# Altium schematic symbol library F407ZGT6.SchLib: 83 symbols
Pins are listed as number, name and electrical type; pins without a type are passive.

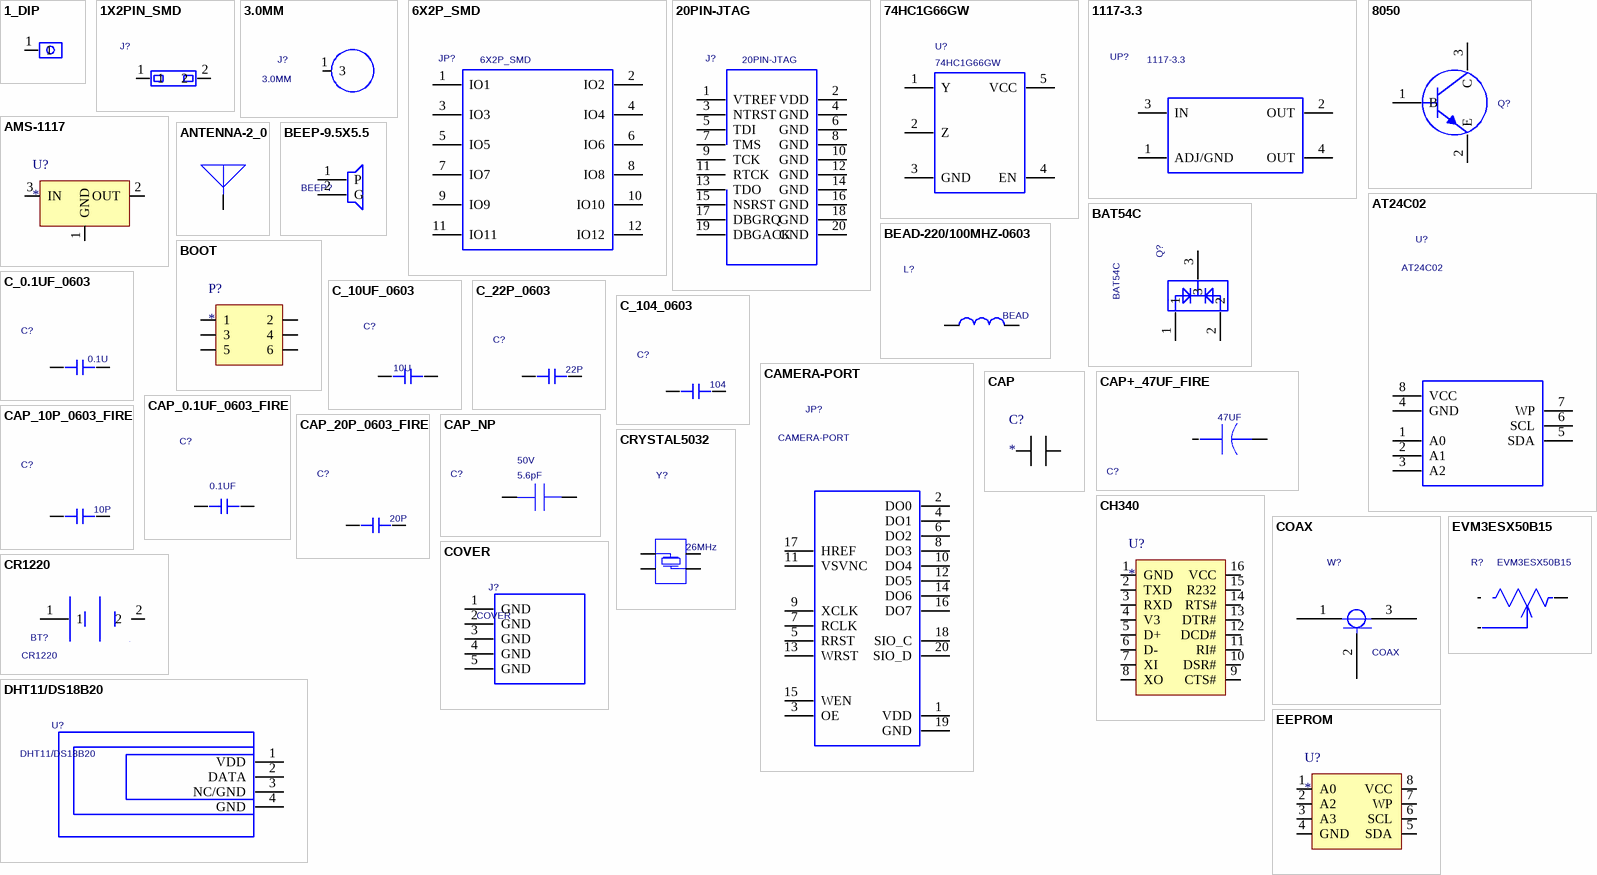
[diagram p0: symbols 1_DIP to EVM3ESX50B15]

## 1_DIP
designator J?  (value not drawn)
PCB DECAL: 1_DIP
footprint 1_DIP
pins: 1

## 1X2PIN_SMD
designator J?  (value not drawn)
PCB DECAL: 1X2PIN_SMD
footprint 1X2PIN_SMD
pins: 1, 2

## 3.0MM
designator J?
PCB DECAL: 3.0MM-5
footprint 3.0MM-5
pins: 1 3

## 6X2P_SMD
designator JP?
I2C_6X2P; PCB DECAL: 12PIN_2.54_SMD; Manufacturer #1 PN: I2C_6X2P; Value: I2C_6X2P
footprint 12PIN_2.54_SMD
pins: 1 IO1, 2 IO2, 3 IO3, 4 IO4, 5 IO5, 6 IO6, 7 IO7, 8 IO8, 9 IO9, 10 IO10, 11 IO11, 12 IO12

## 20PIN-JTAG
designator J?
20pin JTAG; PCB DECAL: FC20H; Manufacturer #1: 20pin JTAG; Manufacturer #1 PN: 20pin JTAG; Value: 20pin JTAG
footprint FC20H
pins: 1 VTREF, 2 VDD, 3 NTRST, 4 GND, 5 TDI, 6 GND, 7 TMS, 8 GND, 9 TCK, 10 GND, 11 RTCK, 12 GND, 13 TDO, 14 GND, 15 NSRST, 16 GND, 17 DBGRQ, 18 GND, 19 DBGACK, 20 GND

## 74HC1G66GW
designator U?
PCB DECAL: SOT-353
footprint SOT-353
pins: 1 Y, 2 Z, 3 GND, 4 EN, 5 VCC

## 1117-3.3
designator UP?
SOT-223; Manufacturer #1: SPX; Geometry.Height: 62.99mil; Manufacturer #1 PN: 1117-3.3
pins: 1 ADJ/GND, 2 OUT, 3 IN, 4 OUT

## 8050
designator Q?  (value not drawn)
NPN; PCB DECAL: SOT-23; Manufacturer #2: 8050
footprint SOT-23
pins: 1 B, 2 E, 3 C

## AMS-1117
designator U?
footprint AMS-1117-3.3
pins: 1 GND, 2 OUT, 3 IN

## ANTENNA-2_0
designator U?  (value not drawn)
PCB DECAL: WIFI_ANTENNA; Source_Path: D:\FIRE_LAYOUT\ESP8266.DSN; Value: ANTENNA-2
footprint WIFI_ANTENNA
pins: 1

## AT24C02
designator U?
8 lead ssop,2k/2048bits; Manufacturer #1: ATMEL; Manufacturer #1 PN: AT24C02; Value: 2k/2048bits
pins: 1 A0, 2 A1, 3 A2, 4 GND, 5 SDA, 6 SCL, 7 WP, 8 VCC

## BAT54C
designator Q?
PCB DECAL: SOT-23; Value: BAT54C
footprint SOT-23
pins: 1, 2, 3

## BEAD-220/100MHZ-0603
designator L?  value BEAD  (hidden comment: BEAD-220/100MHZ-0603)
0603,BEAD; PCB DECAL: L0603; Manufacturer #1 PN: BEAD
footprint L0603
pins: 1, 2

## BEEP-9.5X5.5
designator BEEP?  (value not drawn)
PCB DECAL: BEEP-9.5X5.5
footprint BEEP-9.5X5.5
pins: 1 P, 2 G

## BOOT
designator P?
footprint BOOT
pins: 1, 2, 3, 4, 5, 6

## C_0.1UF_0603
designator C?  value 0.1U  (hidden comment: C_0.1UF_0603)
PCB DECAL: C_0603
footprint C_0603
pins: 1, 2

## C_10UF_0603
designator C?  value 10U  (hidden comment: C_10UF_0603)
PCB DECAL: CAP_0603_FIRE
footprint CAP_0603_FIRE
pins: 1, 2

## C_22P_0603
designator C?  value 22P  (hidden comment: C_22P_0603)
PCB DECAL: C_0603
footprint C_0603
pins: 1, 2

## C_104_0603
designator C?  value 104  (hidden comment: C_104_0603)
PCB DECAL: C_0603
footprint C_0603
pins: 1, 2

## CAMERA-PORT
designator JP?
PCB DECAL: 20PIN_2.54_DIP_BOT; Manufacture 1 P/N: CAMERA-PORT
footprint 20PIN_2.54_DIP_BOT
pins: 1 VDD, 2 DO0, 3 OE, 4 DO1, 5 RRST, 6 DO2, 7 RCLK, 8 DO3, 9 XCLK, 10 DO4, 11 VSVNC, 12 DO5, 13 WRST, 14 DO6, 15 WEN, 16 DO7, 17 HREF, 18 SIO_C, 19 GND, 20 SIO_D

## CAP
designator C?
footprint CAP_0603_FIRE
pins: 1, 2

## CAP+_47UF_FIRE
designator C?  value 47UF  (hidden comment: CAP+_47UF_FIRE)
PCB DECAL: CAP+_47UF_FIRE
footprint CAP+_47UF_FIRE
pins: 1, 2

## CAP_0.1UF_0603_FIRE
designator C?  value 0.1UF  (hidden comment: CAP_0.1UF_0603_FIRE)
SURFACE MOUNT CAPACITOR 0.031 X 0.061 INCHES; PCB DECAL: CAP_0603_FIRE
footprint CAP_0603_FIRE
pins: 1, 2

## CAP_10P_0603_FIRE
designator C?  value 10P  (hidden comment: CAP_10P_0603_FIRE)
0603; Manufacture 1: SUPERCAP; Tolerance: +-5%; PCB DECAL: RES_0603_FIRE
footprint RES_0603_FIRE
pins: 1, 2

## CAP_20P_0603_FIRE
designator C?  value 20P  (hidden comment: CAP_20P_0603_FIRE)
PCB DECAL: CAP_0603_FIRE
footprint CAP_0603_FIRE
pins: 1, 2

## CAP_NP
designator C?  value 5.6pF  Voltage: 50V  (hidden comment: CAP_NP)
0603, X7R, 50V, 10%(K); Partname: 贴片电容  0603; Mfr: Fenghua; Mfr_Part_Number: 0603B104K500NT; Part_Number: CA100039-01; PCB DECAL: 0603; Spec: 100nF/50V 10%(K) X7R,0603B104K500NT(风华); Remarks: Checked; Gtech_Number: 50306031003K50V01; Source_Path: D:\CADENCELIB\CAPTURELIB\LC_PASSIVE.OLB; Datasheet: D:\CadenceLib\Partbase\Datasheet\Capacitor\Fenghua\LC503_Fenghua-X7R.pdf; Tolerance: ±10%; Availability: 30
footprint 0603
pins: 1, 2

## CH340
designator U?
footprint SOP16
pins: 1 GND, 2 TXD, 3 RXD, 4 V3, 5 D+, 6 D-, 7 XI, 8 XO, 9 CTS#, 10 DSR#, 11 RI#, 12 DCD#, 13 DTR#, 14 RTS#, 15 R232, 16 VCC

## COAX
designator W?
PCB DECAL: UFL-3; Source_Path: C:\CADENCE\SPB_16.6\TOOLS\CAPTURE\LIBRARY\CONNECTOR.OLB; Value: COAX
footprint UFL-3
pins: 1 CENTER_1, 2 SHIELD, 3 CENTER_2

## COVER
designator J?
PCB DECAL: COVER1
footprint COVER1
pins: 1 GND, 2 GND, 3 GND, 4 GND, 5 GND

## CR1220
designator BT?
PCB DECAL: BATERY
footprint BATERY
pins: 1, 2

## CRYSTAL5032
designator Y?  value 26MHz  (hidden comment: CRYSTAL5032)
27.12MHz,SMD5032,-30 to 85℃; Part_Number: OS200008-01; Mfr_Part_Number: E5SB27_1200F20G13; Mfr: Hosonic; Partname: 贴片晶振; PCB DECAL: NX3225SA; Spec: 27.12MHz,E5SB27_1200F20G13(Hosonic); Source_Path: D:\CADENCELIB\CAPTURELIB\LC_DISCRETE.OLB; Availability: 0
footprint NX3225SA
pins: 1, 2, 3, 4

## DHT11/DS18B20
designator U?
Manufacture 1 P/N: DHT11/DS1302; PCB DECAL: HDR1X4
footprint HDR1X4
pins: 1 VDD, 2 DATA, 3 NC/GND, 4 GND

## EEPROM
designator U?
footprint SOP8
footprint SOP8
pins: 1 A0, 2 A2, 3 A3, 4 GND, 5 SDA, 6 SCL, 7 WP, 8 VCC

## EVM3ESX50B15
designator R?
c; Value: EVM3ESX50B15-100K; PCB DECAL: EVM3ESX50B14
footprint EVM3ESX50B14
pins: A, B, C

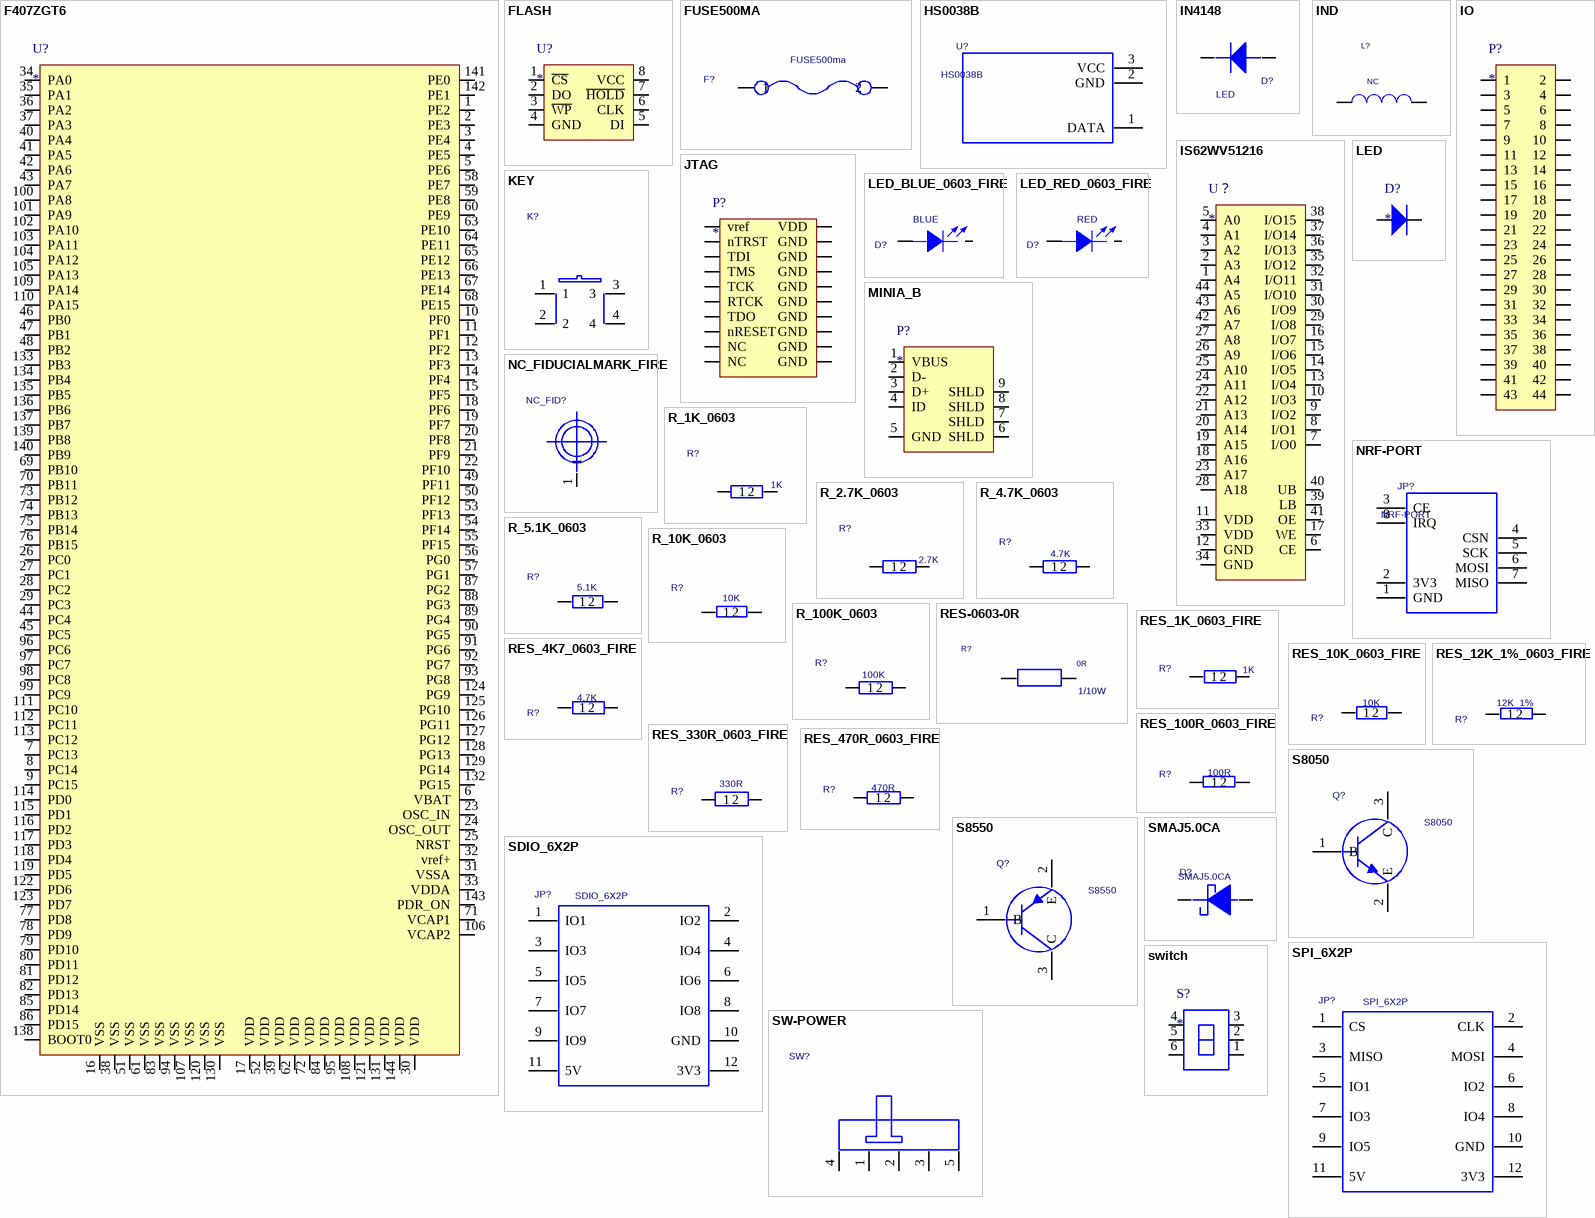
[diagram p1: symbols F407ZGT6 to switch]

## F407ZGT6
designator U?
footprint STM32F407ZGT6
footprint STM32F407ZGT6
pins: 1 PE2, 2 PE3, 3 PE4, 4 PE5, 5 PE6, 6 VBAT, 7 PC13, 8 PC14, 9 PC15, 10 PF0, 11 PF1, 12 PF2, 13 PF3, 14 PF4, 15 PF5, 16 VSS, 17 VDD, 18 PF6, 19 PF7, 20 PF8, 21 PF9, 22 PF10, 23 OSC_IN, 24 OSC_OUT, 25 NRST, 26 PC0, 27 PC1, 28 PC2, 29 PC3, 30 VDD, 31 VSSA, 32 vref+, 33 VDDA, 34 PA0, 35 PA1, 36 PA2, 37 PA3, 38 VSS, 39 VDD, 40 PA4, 41 PA5, 42 PA6, 43 PA7, 44 PC4, 45 PC5, 46 PB0, 47 PB1, 48 PB2, 49 PF11, 50 PF12, 51 VSS, 52 VDD, 53 PF13, 54 PF14, 55 PF15, 56 PG0, 57 PG1, 58 PE7, 59 PE8, 60 PE9, 61 VSS, 62 VDD, 63 PE10, 64 PE11, 65 PE12, 66 PE13, 67 PE14, 68 PE15, 69 PB10, 70 PB11, 71 VCAP1, 72 VDD, 73 PB12, 74 PB13, 75 PB14, 76 PB15, 77 PD8, 78 PD9, 79 PD10, 80 PD11, 81 PD12, 82 PD13, 83 VSS, 84 VDD, 85 PD14, 86 PD15, 87 PG2, 88 PG3, 89 PG4, 90 PG5, 91 PG6, 92 PG7, 93 PG8, 94 VSS, 95 VDD, 96 PC6, 97 PC7, 98 PC8, 99 PC9, 100 PA8, 101 PA9, 102 PA10, 103 PA11, 104 PA12, 105 PA13, 106 VCAP2, 107 VSS, 108 VDD, 109 PA14, 110 PA15, 111 PC10, 112 PC11, 113 PC12, 114 PD0, 115 PD1, 116 PD2, 117 PD3, 118 PD4, 119 PD5, 120 VSS, 121 VDD, 122 PD6, 123 PD7, 124 PG9, 125 PG10, 126 PG11, 127 PG12, 128 PG13, 129 PG14, 130 VSS, 131 VDD, 132 PG15, 133 PB3, 134 PB4, 135 PB5, 136 PB6, 137 PB7, 138 BOOT0, 139 PB8, 140 PB9, 141 PE0, 142 PE1, 143 PDR_ON, 144 VDD

## FLASH
designator U?
footprint SOP8A
pins: 1 ~{CS}, 2 DO, 3 ~{WP}, 4 GND, 5 DI, 6 CLK, 7 ~{HOLD}, 8 VCC

## FUSE500MA
designator F?
Assembly: SMD; PCB DECAL: C1812; Protel.FootprintDescription: Chip Capacitor, 2-Leads, Body 4.6x3.2mm, IP; Manufacture 1 P/N: FUSE500ma; Value: FUSE500ma
footprint C1812
pins: 1, 2

## HS0038B
designator U?
PCB DECAL: HDR1X3; Geometry.Height: 1.19990mm; Protel.FootprintDescription: Connector; Header; 3 Position; Manufacture 1 P/N: HS0038B
footprint HDR1X3
pins: 1 DATA, 2 GND, 3 VCC

## IN4148
designator D?  value LED  (hidden comment: IN4148)
PCB DECAL: DIODE_SOP
footprint DIODE_SOP
pins: 1 +, 2 -

## IND
designator L?  value NC  (hidden comment: IND)
1uH, 1.1R@245MHz, 245mA; Partname: 贴片电感; Mfr: TDK; Mfr_Part_Number: NLV25T-1R0J-PF; Part_Number: IN100085-01; PCB DECAL: 0603; Spec: 1uH,NLV25T-1R0J-PF(TDK); Tolerance: 5%; Resistance: 1.1R; Source_Path: D:\CADENCELIB\CAPTURELIB\LC_PASSIVE.OLB; Current: 245mA; Availability: 0
footprint 0603
pins: 1, 2

## IO
designator P?
footprint HEAD2*22
pins: 1, 2, 3, 4, 5, 6, 7, 8, 9, 10, 11, 12, 13, 14, 15, 16, 17, 18, 19, 20, 21, 22, 23, 24, 25, 26, 27, 28, 29, 30, 31, 32, 33, 34, 35, 36, 37, 38, 39, 40, 41, 42, 43, 44

## IS62WV51216
designator U？
footprint IS62WV51216
footprint IS62WV51216
pins: 1 A4, 2 A3, 3 A2, 4 A1, 5 A0, 6 CE, 7 I/O0, 8 I/O1, 9 I/O2, 10 I/O3, 11 VDD, 12 GND, 13 I/O4, 14 I/O5, 15 I/O6, 16 I/O7, 17 WE, 18 A16, 19 A15, 20 A14, 21 A13, 22 A12, 23 A17, 24 A11, 25 A10, 26 A9, 27 A8, 28 A18, 29 I/O8, 30 I/O9, 31 I/O10, 32 I/O11, 33 VDD, 34 GND, 35 I/O12, 36 I/O13, 37 I/O14, 38 I/O15, 39 LB, 40 UB, 41 OE, 42 A7, 43 A6, 44 A5

## JTAG
designator P?
footprint FC20H
footprint FC20H
pins: 1 vref, 2 VDD, 3 nTRST, 4 GND, 5 TDI, 6 GND, 7 TMS, 8 GND, 9 TCK, 10 GND, 11 RTCK, 12 GND, 13 TDO, 14 GND, 15 nRESET, 16 GND, 17 NC, 18 GND, 19 NC, 20 GND

## KEY
designator K?  (value not drawn)
PCB DECAL: SW6.2/6.2-SMD; Manufacturer #1 PN: KEY
footprint SW6.2/6.2-SMD
pins: 1, 2, 3, 4

## LED
designator D?
footprint DIODE_SOP
pins: 1, 2

## LED_BLUE_0603_FIRE
designator D?  value BLUE  (hidden comment: LED_BLUE_0603_FIRE)
blue,0603; PCB DECAL: LED_BLUE_0603_FIRE
footprint LED_BLUE_0603_FIRE
pins: A ANODE, K CATHODE

## LED_RED_0603_FIRE
designator D?  value RED  (hidden comment: LED_RED_0603_FIRE)
red,0805; PCB DECAL: LED_RED_0603_FIRE
footprint LED_RED_0603_FIRE
pins: A ANODE, K CATHODE

## MINIA_B
designator P?
footprint USB-MINI
pins: 1 VBUS, 2 D-, 3 D+, 4 ID, 5 GND, 6 SHLD, 7 SHLD, 8 SHLD, 9 SHLD

## NC_FIDUCIALMARK_FIRE
designator NC_FID?  (value not drawn)
FIDUCIAL MARK; Serial Number: NF; Priority: 1; PCB DECAL: NC_FIDUCIALMARK_FIRE
footprint NC_FIDUCIALMARK_FIRE
pins: 1

## NRF-PORT
designator JP?
PCB DECAL: 8PIN_2.54_SMD; Manufacture 1 P/N: NRF-PORT
footprint 8PIN_2.54_SMD
pins: 1 GND, 2 3V3, 3 CE, 4 CSN, 5 SCK, 6 MOSI, 7 MISO, 8 IRQ

## R_1K_0603
designator R?  value 1K  (hidden comment: R_1K_0603)
PCB DECAL: R_0603
footprint R_0603
pins: 1, 2

## R_2.7K_0603
designator R?  value 2.7K  (hidden comment: R_2.7K_0603)
PCB DECAL: R_0603
footprint R_0603
pins: 1, 2

## R_4.7K_0603
designator R?  value 4.7K  (hidden comment: R_4.7K_0603)
PCB DECAL: R_0603
footprint R_0603
pins: 1, 2

## R_5.1K_0603
designator R?  value 5.1K  (hidden comment: R_5.1K_0603)
PCB DECAL: R_0603
footprint R_0603
pins: 1, 2

## R_10K_0603
designator R?  value 10K  (hidden comment: R_10K_0603)
PCB DECAL: R_0603
footprint R_0603
pins: 1, 2

## R_100K_0603
designator R?  value 100K  (hidden comment: R_100K_0603)
PCB DECAL: R_0603
footprint R_0603
pins: 1, 2

## RES-0603-0R
designator R?  value 0R  Power: 1/10W  (hidden comment: RES-0603-0R)
0603, 50V, 1/10W, 5%; Partname: 贴片电阻 0603; Part_Number: RE200045-01; Mfr_Part_Number: RS03K104JT; Mfr: Fenghua; PCB DECAL: 0603; Spec: 0R,1/10W,5%,RS03K104JT(风华); Remarks: Checked; Gtech_Number: 50106031003JR1001; Source_Path: D:\CADENCELIB\CAPTURELIB\LC_PASSIVE.OLB; Availability: 0
footprint 0603
pins: 1, 2

## RES_1K_0603_FIRE
designator R?  value 1K  (hidden comment: RES_1K_0603_FIRE)
0402; Manufacture 1: SUPEROHM; Tolerance: +-5%; PCB DECAL: RES_0603_FIRE; Assembly: SMD
footprint RES_0603_FIRE
pins: 1, 2

## RES_4K7_0603_FIRE
designator R?  value 4.7K  (hidden comment: RES_4K7_0603_FIRE)
0402; Manufacture 1: SUPEROHM; Tolerance: +-5%; PCB DECAL: RES_0603_FIRE
footprint RES_0603_FIRE
pins: 1, 2

## RES_10K_0603_FIRE
designator R?  value 10K  (hidden comment: RES_10K_0603_FIRE)
SURFACE MOUNT RESISTOR 0.031 X 0.061 INCHES, 1/10W; PCB DECAL: RES_0603_FIRE; Assembly: SMD
footprint RES_0603_FIRE
pins: 1, 2

## RES_12K_1%_0603_FIRE
designator R?  value 12K_1%  (hidden comment: RES_12K_1%_0603_FIRE)
0402; Manufacture 1: SUPEROHM; Tolerance: +-1%; PCB DECAL: RES_0603_FIRE; Assembly: SMD
footprint RES_0603_FIRE
pins: 1, 2

## RES_100R_0603_FIRE
designator R?  value 100R  (hidden comment: RES_100R_0603_FIRE)
0402; Manufacture 1: SUPEROHM; Tolerance: +-5%; PCB DECAL: RES_0603_FIRE; Assembly: SMD
footprint RES_0603_FIRE
pins: 1, 2

## RES_330R_0603_FIRE
designator R?  value 330R  (hidden comment: RES_330R_0603_FIRE)
0402; Manufacture 1: SUPEROHM; Tolerance: +-5%; PCB DECAL: RES_0603_FIRE; Assembly: SMD
footprint RES_0603_FIRE
pins: 1, 2

## RES_470R_0603_FIRE
designator R?  value 470R  (hidden comment: RES_470R_0603_FIRE)
0402; Manufacture 1: SUPEROHM; Tolerance: +-5%; PCB DECAL: RES_0603_FIRE; Assembly: SMD
footprint RES_0603_FIRE
pins: 1, 2

## S8050
designator Q?
NPN; PCB DECAL: SOT-23; Manufacturer #2: 8050
footprint SOT-23
pins: 1 B, 2 E, 3 C

## S8550
designator Q?
NPN; PCB DECAL: SOT-23; Manufacturer #2: 8050
footprint SOT-23
pins: 1 B, 2 E, 3 C

## SDIO_6X2P
designator JP?
I2C_6X2P; PCB DECAL: 12PIN_2.54_SMD; Manufacturer #1 PN: I2C_6X2P; Value: I2C_6X2P
footprint 12PIN_2.54_SMD
pins: 1 IO1, 2 IO2, 3 IO3, 4 IO4, 5 IO5, 6 IO6, 7 IO7, 8 IO8, 9 IO9, 10 GND, 11 5V, 12 3V3

## SMAJ5.0CA
designator D?
PCB DECAL: DO-214; Value: SMAJ5.0CA
footprint DO-214
pins: 1 +, 2 -

## SPI_6X2P
designator JP?
PCB DECAL: 12PIN_2.54_SMD; Manufacturer #1 PN: SPI_6X2P; Value: SPI_6X2P
footprint 12PIN_2.54_SMD
pins: 1 CS, 2 CLK, 3 MISO, 4 MOSI, 5 IO1, 6 IO2, 7 IO3, 8 IO4, 9 IO5, 10 GND, 11 5V, 12 3V3

## SW-POWER
designator SW?  (value not drawn)
SW-5; PCB DECAL: SW13_6; Manufacturer #1 PN: SW-5
footprint SW13_6
pins: 1, 2, 3, 4, 5

## switch
designator S?
footprint switch
pins: 1, 2, 3, 4, 5, 6

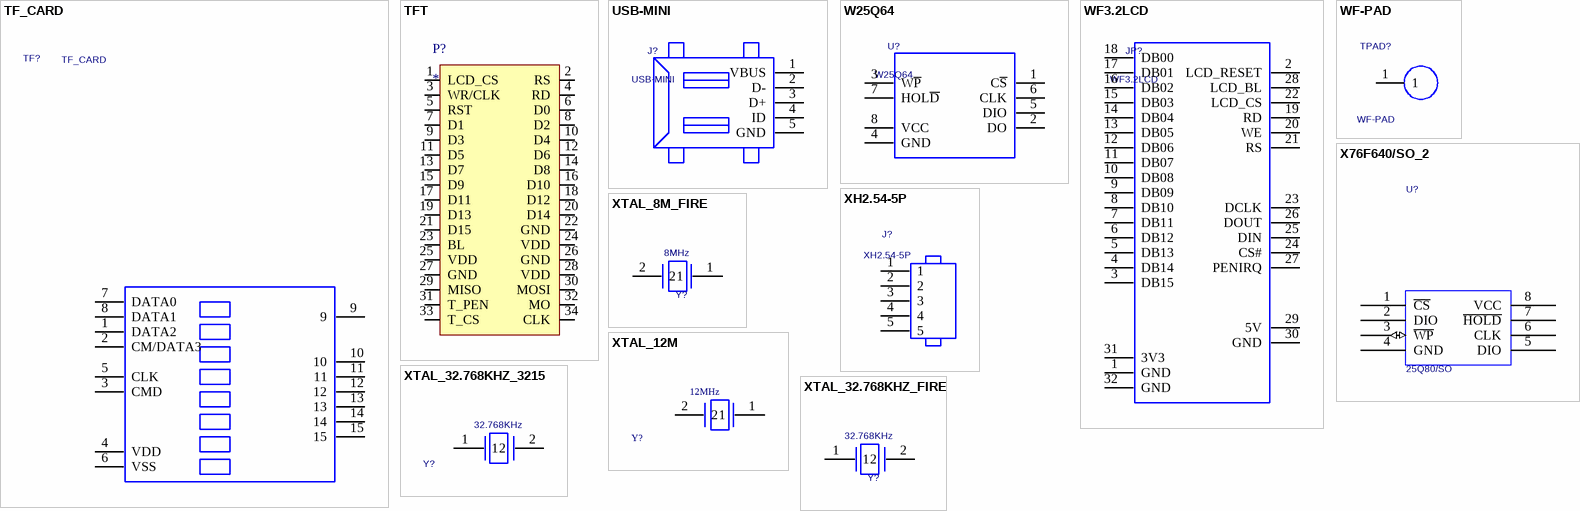
[diagram p2: symbols TF_CARD to XTAL_32.768KHZ_FIRE]

## TF_CARD
designator TF?
Manufacturer #1 PN: MicroSD座/手机; PCB DECAL: TF_CARD
footprint TF_CARD
pins: 1 DATA2, 2 CM/DATA3, 3 CMD, 4 VDD, 5 CLK, 6 VSS, 7 DATA0, 8 DATA1, 9, 10, 11, 12, 13, 14, 15

## TFT
designator P?
footprint TFT
pins: 1 LCD_CS, 2 RS, 3 WR/CLK, 4 RD, 5 RST, 6 D0, 7 D1, 8 D2, 9 D3, 10 D4, 11 D5, 12 D6, 13 D7, 14 D8, 15 D9, 16 D10, 17 D11, 18 D12, 19 D13, 20 D14, 21 D15, 22 GND, 23 BL, 24 VDD, 25 VDD, 26 GND, 27 GND, 28 VDD, 29 MISO, 30 MOSI, 31 T_PEN, 32 MO, 33 T_CS, 34 CLK

## USB-MINI
designator J?
PCB DECAL: USB-MINI
footprint USB-MINI
pins: 1 VBUS, 2 D-, 3 D+, 4 ID, 5 GND

## W25Q64
designator U?
PCB DECAL: SO8WB
footprint SO8WB
pins: 1 C~{S}, 2 DO, 3 W~{P}, 4 GND, 5 DIO, 6 CLK, 7 HOL~{D}, 8 VCC

## WF3.2LCD
designator JP?
PCB DECAL: 2X16X2.54MM
footprint 2X16X2.54MM
pins: 1 GND, 2 LCD_RESET, 3 DB15, 4 DB14, 5 DB13, 6 DB12, 7 DB11, 8 DB10, 9 DB09, 10 DB08, 11 DB07, 12 DB06, 13 DB05, 14 DB04, 15 DB03, 16 DB02, 17 DB01, 18 DB00, 19 RD, 20 WE, 21 RS, 22 LCD_CS, 23 DCLK, 24 CS#, 25 DIN, 26 DOUT, 27 PENIRQ, 28 LCD_BL, 29 5V, 30 GND, 31 3V3, 32 GND

## WF-PAD
designator TPAD?
pins: 1

## X76F640/SO_2
designator U?  value 25Q80/SO  (hidden comment: X76F640/SO_2)
PCB DECAL: SOP8; Source_Path: D:\FIRE_LAYOUT\ESP8266.DSN
footprint SOP8
pins: 1 ~{CS}, 2 DIO, 3 ~{WP} (io), 4 GND, 5 DIO, 6 CLK, 7 ~{HOLD}, 8 VCC

## XH2.54-5P
designator J?
PCB DECAL: XH2.54-5P
footprint XH2.54-5P
pins: 1, 2, 3, 4, 5

## XTAL_8M_FIRE
designator Y?  value 8MHz  (hidden comment: XTAL_8M_FIRE)
CRYSTAL; PCB DECAL: CRYSTAL_SMD_FIRE
footprint CRYSTAL_SMD_FIRE
pins: 1, 2

## XTAL_12M
designator Y?  value 12MHz  (hidden comment: XTAL_12M)
PCB DECAL: XTAL_SMD
footprint XTAL_SMD
pins: 1, 2

## XTAL_32.768KHZ_3215
designator Y?  value 32.768KHz  (hidden comment: XTAL_32.768KHZ_3215)
CRYSTAL; PCB DECAL: 3215
footprint 3215
pins: 1, 2

## XTAL_32.768KHZ_FIRE
designator Y?  value 32.768KHz  (hidden comment: XTAL_32.768KHZ_FIRE)
CRYSTAL; PCB DECAL: CRYS-3X8
footprint CRYS-3X8
pins: 1, 2